# Altium footprint library Antenna.PcbLib: 3 footprints
Each footprint in its own frame and in the unit in brackets; x right, y up, seen from the top. Pads: shape width x height; smd on the part's side, far side on the other; paste and mask are expansions set on the pad; w line width, h text height; cw(c..) or ccw(c..) is an arc to the next point about the centre after c.
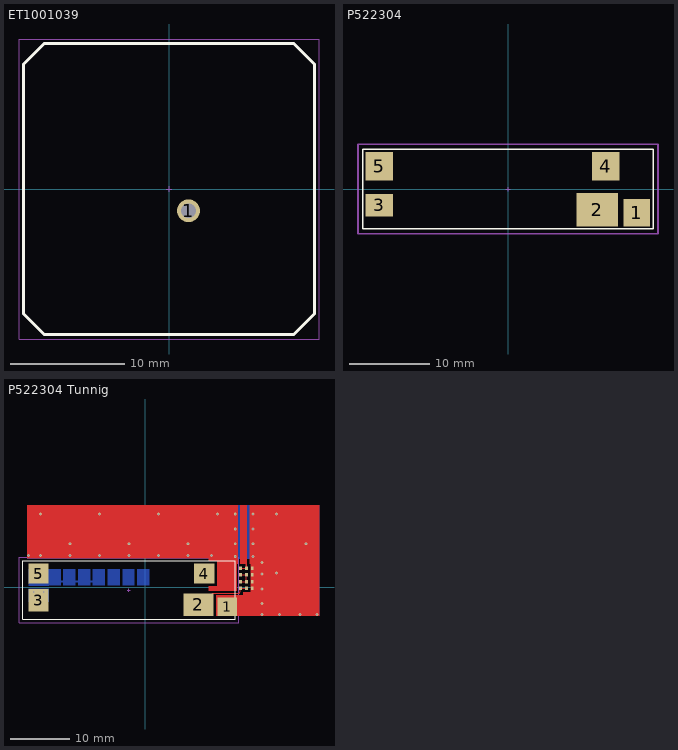
[diagram p0: the footprints below, top view; thin cyan lines are the x and y axes]

## ET1001039 [mm]
pads (1):
  round 2 hole 1.3: 1(1.7,-1.9)
Top Overlay:
  lines w0.254: -12.7,-10.9 -10.9,-12.7 10.9,-12.7 12.7,-10.9 12.7,10.9 10.9,12.7 -10.9,12.7 -12.7,10.9 -12.7,-10.9
Mechanical 15:
  lines w0.1: -0.25,0 0.25,0 ; 0,-0.25 0,0.25 ; -13.1,-13.1 13.1,-13.1 13.1,13.1 -13.1,13.1 -13.1,-13.1
3D body "ET1001039.STEP": height 4.5, standoff -3, extent -12.5,-12.5 12.5,12.5

## P522304 [mm]
pads (5):
  rect 3.3x3.4 smd: 1(15.975,-2.875)
  rect 5.1x4.1 smd: 2(11.075,-2.525)
  rect 3.4x2.8 smd: 3(-15.975,-1.975)
  rect 3.4x3.5 smd: 4(12.125,2.875) 5(-15.975,2.875)
Top Overlay:
  lines w0.2: -18,-4.9 -18,5 18,5 18,-4.9 -18,-4.9
Mechanical 15:
  lines w0.1: -0.25,0 0.25,0 ; 0,-0.25 0,0.25
  lines w0.2: -18.6,-5.5 18.6,-5.5 18.6,5.6 -18.6,5.6 -18.6,-5.5
3D body "P522304 - Chip Antenna.STEP": height 3.2, standoff -0.01, extent -17.5,-4.5 17.5,4.5

## P522304 Tunnig [mm]
pads (17):
  rect 3.3x3.1 smd: 1(13.885,-3.267)
  rect 5.1x3.8 smd: 2(8.985,-2.942)
  rect 3.4x3.8 smd: 3(-18.09,-2.142)
  rect 3.4x3.4 smd: 4(9.96,2.333) 5(-18.09,2.358)
  rect 0.5x0.6 smd: B1(18.09,-0.132) B2(17.09,-0.132) B3(16.09,-0.132) B4(18.09,0.968) B5(17.09,0.968) B6(16.09,0.968) B7(18.09,2.168) B8(17.09,2.168) B9(16.09,2.168) B10(18.09,3.268) B11(17.09,3.268) B12(16.09,3.268)
via -17.23,-0.757 diameter 0.5 hole 0.3
via -18.93,-0.757 diameter 0.5 hole 0.3
via -19.795,5.405 diameter 0.5 hole 0.3
via -17.795,5.405 diameter 0.5 hole 0.3
via -12.795,5.405 diameter 0.5 hole 0.3
via -7.795,5.405 diameter 0.5 hole 0.3
via -2.795,5.405 diameter 0.5 hole 0.3
via 2.205,5.405 diameter 0.5 hole 0.3
via 7.205,5.405 diameter 0.5 hole 0.3
via 11.205,5.405 diameter 0.5 hole 0.3
via 15.205,5.255 diameter 0.5 hole 0.3
via 18.205,5.255 diameter 0.5 hole 0.3
via 19.705,4.255 diameter 0.5 hole 0.3
via 19.705,2.255 diameter 0.5 hole 0.3
via 19.705,-0.245 diameter 0.5 hole 0.3
via 19.705,-2.745 diameter 0.5 hole 0.3
via 19.705,-4.575 diameter 0.5 hole 0.3
via 22.705,-4.595 diameter 0.5 hole 0.3
via 26.205,-4.575 diameter 0.5 hole 0.3
via 29.025,-4.595 diameter 0.5 hole 0.3
via 22.205,2.405 diameter 0.5 hole 0.3
via 27.205,7.395 diameter 0.5 hole 0.3
via 18.205,7.395 diameter 0.5 hole 0.3
via 18.205,9.905 diameter 0.5 hole 0.3
via 18.205,12.405 diameter 0.5 hole 0.3
via 22.205,12.405 diameter 0.5 hole 0.3
via 15.205,7.395 diameter 0.5 hole 0.3
via 15.205,9.905 diameter 0.5 hole 0.3
via 15.205,12.405 diameter 0.5 hole 0.3
via 12.205,12.405 diameter 0.5 hole 0.3
via 7.205,7.395 diameter 0.5 hole 0.3
via -2.795,7.395 diameter 0.5 hole 0.3
via 2.205,12.405 diameter 0.5 hole 0.3
via -7.795,12.405 diameter 0.5 hole 0.3
via -12.795,7.395 diameter 0.5 hole 0.3
via -17.795,12.405 diameter 0.5 hole 0.3
Top Layer:
  region: -20.01,13.907 -20.01,4.903 10.69,4.903 10.69,4.493 12.12,4.493 12.12,0.173 10.69,0.173 10.69,-0.597 15.44,-0.597 15.44,3.968 15.59,3.968 15.59,13.904
  region: 17.64,13.909 17.64,3.968 17.84,3.968 17.84,-0.832 16.59,-0.832 16.59,-1.297 11.985,-1.297 11.985,-4.817 29.39,-4.817 29.39,13.905
  region: 16.04,13.911 16.04,3.968 16.99,3.968 16.99,3.538 17.19,3.538 17.19,13.908
  lines w0.2: 10.835,-1.482 11.37,-0.947 15.89,-0.947 16.09,-0.747 16.09,-0.132 17.09,-0.132 ; 16.09,0.968 17.09,0.968 17.09,2.168 16.09,2.168 ; 16.09,3.268 17.09,3.268
Bottom Layer:
  region: -19.79,-2.417 -19.79,-0.257 -16.38,-0.257 -16.38,-2.417
  region: -1.38,0.387 -1.38,3.083 0.62,3.083 0.62,0.387
  region: -3.88,0.387 -3.88,3.083 -1.88,3.083 -1.88,0.387
  region: -6.38,0.387 -6.38,3.083 -4.38,3.083 -4.38,0.387
  region: -19.79,0.243 -19.79,3.083 -14.38,3.083 -14.38,1.137 -13.88,1.137 -13.88,3.083 -11.88,3.083 -11.88,1.137 -11.38,1.137 -11.38,3.083 -9.38,3.083 -9.38,1.137 -8.88,1.137 -8.88,3.083 -6.905,3.083 -6.88,3.058 -6.88,0.387 -8.88,0.387 -8.88,0.887 -9.38,0.887 -9.38,0.387 -11.38,0.387 -11.38,0.887 -11.88,0.887 -11.88,0.387 -13.88,0.387 -13.88,0.887 -14.38,0.887 -14.38,0.387 -16.38,0.387 -16.38,0.243
  region: -20.01,4.883 -20.01,13.907 -20.009,13.906 29.39,13.906 29.39,-4.817 19.19,-4.817 19.19,4.883
Top Overlay:
  lines w0.2: -20.805,-5.407 -20.805,4.493 15.195,4.493 15.195,-5.407 -20.805,-5.407
Bottom Solder:
  rectangle: -1.38,1.983 -0.88,2.583
  rectangle: -2.38,1.983 -1.88,2.583
  rectangle: -3.88,1.983 -3.38,2.583
  rectangle: -4.88,1.983 -4.38,2.583
  rectangle: -6.38,1.983 -5.88,2.583
  rectangle: -7.38,1.983 -6.88,2.583
  rectangle: -8.88,1.983 -8.38,2.583
  rectangle: -9.88,1.983 -9.38,2.583
  rectangle: -11.38,1.983 -10.88,2.583
  rectangle: -12.38,1.983 -11.88,2.583
  rectangle: -13.88,1.983 -13.38,2.583
  rectangle: -14.88,1.983 -14.38,2.583
  rectangle: -18.38,0.243 -17.78,0.743
  rectangle: -18.38,-0.757 -17.78,-0.257
Mechanical 15:
  lines w0.1: -3.06,-0.477 -2.56,-0.477 ; -2.81,-0.727 -2.81,-0.227
  lines w0.2: -21.41,-5.977 15.79,-5.977 15.79,5.123 -21.41,5.123 -21.41,-5.977
3D body "P522304 - Chip Antenna.STEP": height 3.2, standoff -0.01, extent -20.33,-4.992 14.67,4.008